# Altium schematic symbol library TPS54331DDAR.SchLib: 1 symbol
Pins are listed as number, name and electrical type; pins without a type are passive.

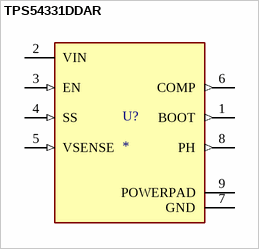
[diagram p0: symbol TPS54331DDAR]

## TPS54331DDAR
designator U?
3.5V to 28V Input, 3A, 570kHz Step-Down Converter with Eco-mode 8-SO PowerPAD -40 to 150; MF: {'manufacturer': u'Texas Instruments'}; MP: TPS54331DDAR; Price: None; Availability: Unavailable; Package: None; Value: *
footprint CONV_TPS54331DDAR
pins: 1 BOOT (out), 2 VIN (power), 3 EN (in), 4 SS (in), 5 VSENSE (in), 6 COMP (out), 7 GND (power), 8 PH (out), 9 POWERPAD (power)